# Altium schematic symbol library B72214S0351K101.SchLib: 1 symbol
Pins are listed as number, name and electrical type; pins without a type are passive.

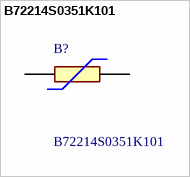
[diagram p0: symbol B72214S0351K101]

## B72214S0351K101
designator B?
Leaded Disk Varistors, Max. Operating Voltage [AC]=350Vrms, Max. Surge Current Imax(8/20?s,1time)=4500A; Manufacturer_Name: TDK; Geometry.Height: 18.5mm; Manufacturer_Part_Number: B72214S0351K101; Mouser Part Number: *; Mouser Price/Stock: *; Arrow Part Number: B72214S0351K101; Arrow Price/Stock: https://www.arrow.com/en/products/b72214s0351k101/epcos-tdk?region=nac; Datasheet Link: https://product.tdk.com/system/files/dam/doc/product/protection/voltage/lead-disk-varistor/data_sheet/70/db/var/siov_leaded_standard.pdf
footprint B72214S0351K101
pins: 1, 2